# Altium footprint library Resistors-potenciometers.PcbLib: 79 footprints (part 2 of 5)
Each footprint in its own frame and in the unit in brackets; x right, y up, seen from the top. Pads: shape width x height; smd on the part's side, far side on the other; paste and mask are expansions set on the pad; w line width, h text height; cw(c..) or ccw(c..) is an arc to the next point about the centre after c.
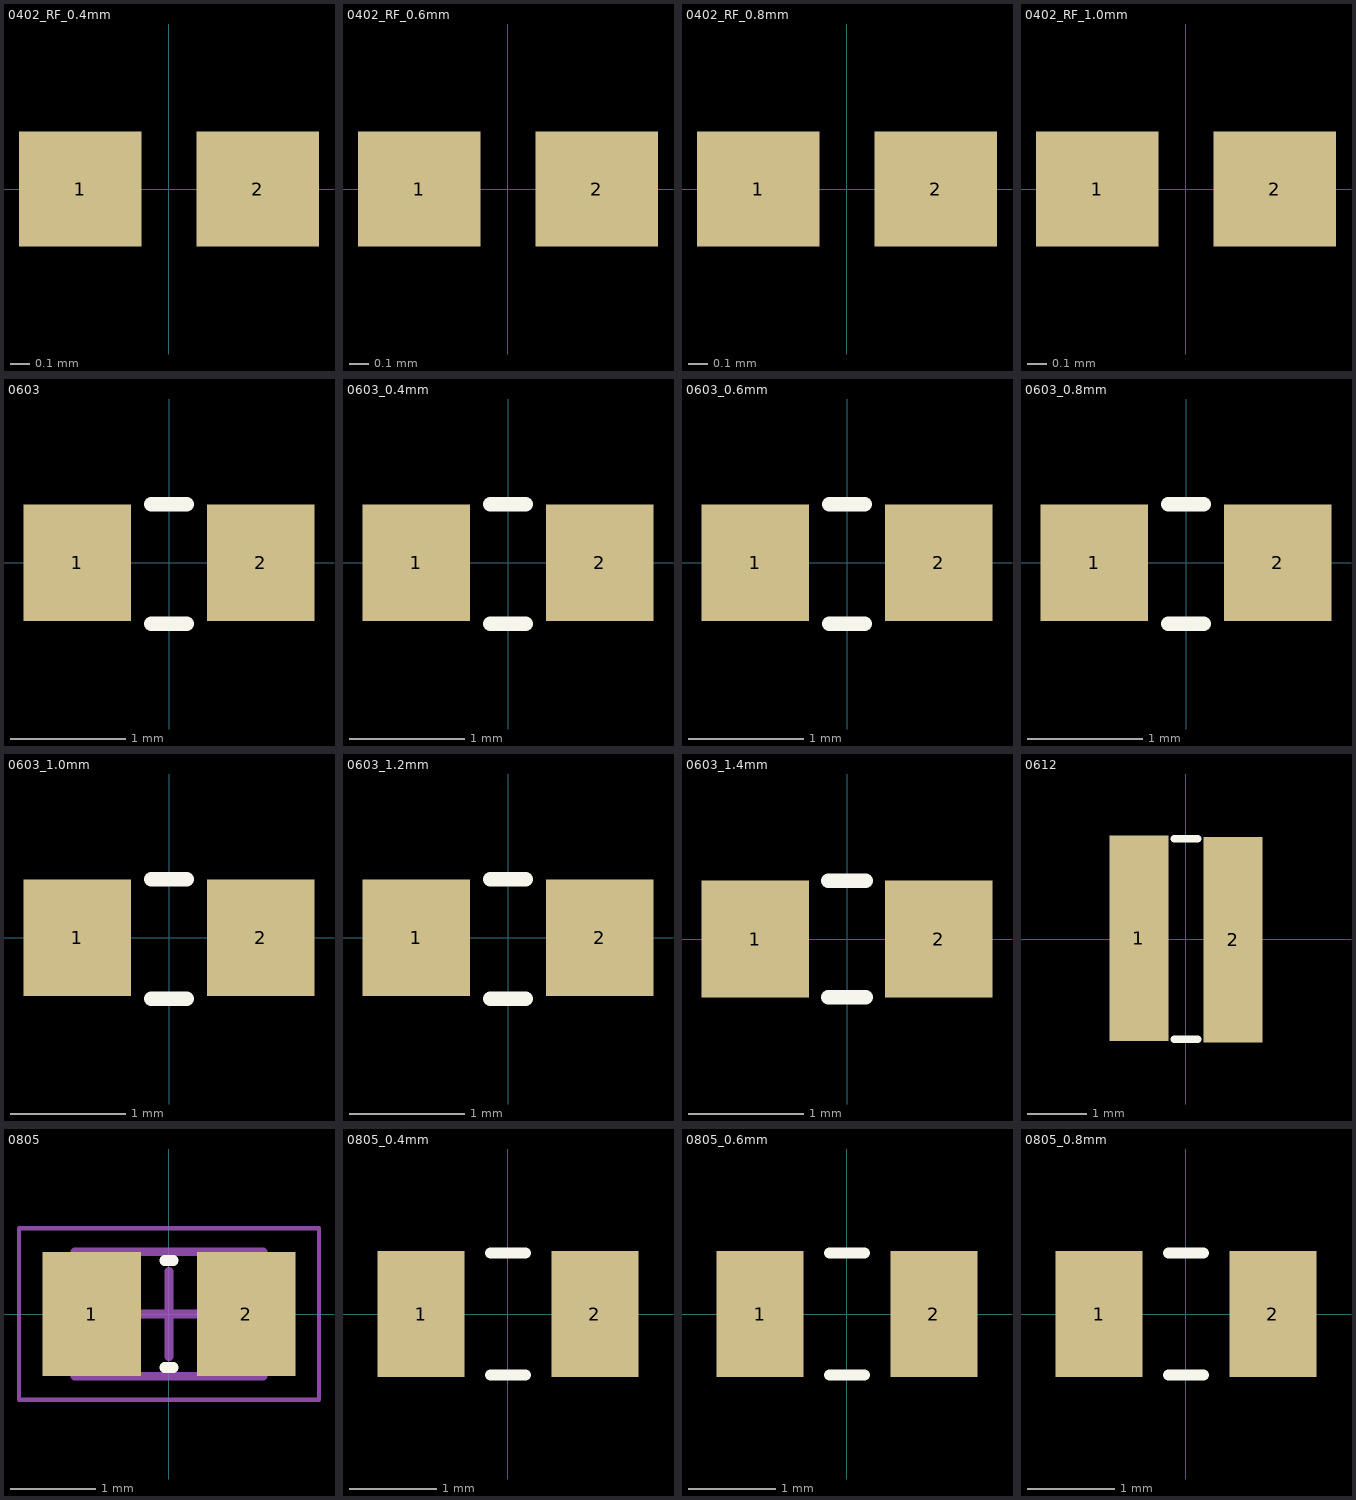
[diagram p1: the footprints below, top view; thin cyan lines are the x and y axes]

## 0402_RF_0.4mm [mm] "1005 Metric/20230306/J-A.Sepulveda"
pads (2):
  rect 0.62x0.584 smd: 1(-0.45,0) 2(0.45,0)
3D body: height 0.5, standoff 0.1, extent -0.5,-0.25 0.5,0.25

## 0402_RF_0.6mm [mm] "1005 Metric/20230306/J-A.Sepulveda"
pads (2):
  rect 0.62x0.584 smd: 1(-0.45,0) 2(0.45,0)
3D body: height 0.7, standoff 0.1, extent -0.5,-0.25 0.5,0.25

## 0402_RF_0.8mm [mm] "1005 Metric/20230306/J-A.Sepulveda"
pads (2):
  rect 0.62x0.584 smd: 1(-0.45,0) 2(0.45,0)
3D body: height 0.9, standoff 0.1, extent -0.5,-0.25 0.5,0.25

## 0402_RF_1.0mm [mm] "1005 Metric/20230306/J-A.Sepulveda"
pads (2):
  rect 0.62x0.584 smd: 1(-0.45,0) 2(0.45,0)
3D body: height 1.1, standoff 0.1, extent -0.5,-0.25 0.5,0.25

## 0603 [mil] "1608 Metric / 20190222 / N-A.Potosi"
pads (2):
  rect 37x40 smd: 1(-31.5,0) 2(31.5,0)
Top Overlay:
  lines w5: -6,-21 6,-21 ; -6,20 6,20
3D body "C0603.step": height 11.89, standoff 0, extent -31.5,-15.75 31.5,15.75

## 0603_0.4mm [mil] "1608 Metric/20230303/J-A.Sepulveda"
pads (2):
  rect 37x40 smd: 1(-31.5,0) 2(31.5,0)
Top Overlay:
  lines w5: -6,-21 6,-21 ; -6,20 6,20
3D body: height 19.68, standoff 3.94, extent -35.5,-19.49 35.51,19.49

## 0603_0.6mm [mil] "1608 Metric/20230303/J-A.Sepulveda"
pads (2):
  rect 37x40 smd: 1(-31.5,0) 2(31.5,0)
Top Overlay:
  lines w5: -6,-21 6,-21 ; -6,20 6,20
3D body: height 27.56, standoff 3.94, extent -35.5,-19.49 35.51,19.49

## 0603_0.8mm [mil] "1608 Metric/20230303/J-A.Sepulveda"
pads (2):
  rect 37x40 smd: 1(-31.5,0) 2(31.5,0)
Top Overlay:
  lines w5: -6,-21 6,-21 ; -6,20 6,20
3D body: height 35.43, standoff 3.94, extent -35.5,-19.49 35.51,19.49

## 0603_1.0mm [mil] "1608 Metric/20230303/J-A.Sepulveda"
pads (2):
  rect 37x40 smd: 1(-31.5,0) 2(31.5,0)
Top Overlay:
  lines w5: -6,-21 6,-21 ; -6,20 6,20
3D body: height 43.31, standoff 3.94, extent -35.5,-19.49 35.51,19.49

## 0603_1.2mm [mil] "1608 Metric/20230303/J-A.Sepulveda"
pads (2):
  rect 37x40 smd: 1(-31.5,0) 2(31.5,0)
Top Overlay:
  lines w5: -6,-21 6,-21 ; -6,20 6,20
3D body: height 51.18, standoff 3.94, extent -35.5,-19.49 35.51,19.49

## 0603_1.4mm [mil] "1608 Metric/20230206/J-A.Sepulveda"
pads (2):
  rect 37x40 smd: 1(-31.5,0) 2(31.5,0)
Top Overlay:
  lines w5: -6.5,-20 6.5,-20 ; -6.5,20 6.5,20
3D body: height 59.06, standoff 3.94, extent -31.5,-15.75 31.5,15.75

## 0612 [mm] "3216Metric / 20101029/ V-A.Patino"
pads (2):
  rect 1x3.5 smd: 1(-0.8,0.013) 2(0.8,-0.013)
Top Overlay:
  lines w0.127: -0.203,-1.702 0.203,-1.702 ; -0.203,1.702 0.203,1.702
3D body "RCL0612_VIS.step": height 0.65, standoff 0, extent -0.9,-1.7 0.9,1.7

## 0805 [mm] "2012 metric/ 20190327 / V-A.Patino"
pads (2):
  rect 1.15x1.45 smd: 1(-0.9,0) 2(0.9,0)
Top Overlay:
  lines w0.127: -0.05,-0.625 0.05,-0.625 ; -0.05,0.625 0.05,0.625
Mechanical 1:
  lines w0.1: -1.1,-0.725 1.1,-0.725 1.1,0.725 -1.1,0.725 -1.1,-0.725
Mechanical 15:
  lines w0.05: -1.75,-1 1.75,-1 1.75,1 -1.75,1 -1.75,-1
  lines w0.1: -0.5,0 0.5,0 ; 0,-0.5 0,0.5
3D body: height 1.3, standoff 0, extent -1.1,-0.725 -0.6,0.725
3D body: height 1.3, standoff 0, extent 0.6,-0.725 1.1,0.725
3D body: height 1.3, standoff 0, extent -0.6,-0.725 0.6,0.725

## 0805_0.4mm [mm] "2012 metric/20230306/ J-A.Sepulveda"
pads (2):
  rect 1x1.45 smd: 1(-1,0) 2(1,0)
Top Overlay:
  lines w0.127: -0.2,-0.7 0.2,-0.7 ; -0.2,0.7 0.2,0.7
3D body: height 0.5, standoff 0.1, extent -1,-0.65 -0.6,0.65
3D body: height 0.5, standoff 0.1, extent -0.6,-0.65 0.6,0.65
3D body: height 0.5, standoff 0.1, extent 0.6,-0.65 1,0.65

## 0805_0.6mm [mm] "2012 metric/20230306/ J-A.Sepulveda"
pads (2):
  rect 1x1.45 smd: 1(-1,0) 2(1,0)
Top Overlay:
  lines w0.127: -0.2,-0.7 0.2,-0.7 ; -0.2,0.7 0.2,0.7
3D body: height 0.7, standoff 0.1, extent -0.6,-0.65 0.6,0.65
3D body: height 0.7, standoff 0.1, extent 0.6,-0.65 1,0.65
3D body: height 0.7, standoff 0.1, extent -1,-0.65 -0.6,0.65

## 0805_0.8mm [mm] "2012 metric/20230306/ J-A.Sepulveda"
pads (2):
  rect 1x1.45 smd: 1(-1,0) 2(1,0)
Top Overlay:
  lines w0.127: -0.2,-0.7 0.2,-0.7 ; -0.2,0.7 0.2,0.7
3D body: height 0.9, standoff 0.1, extent -0.6,-0.65 0.6,0.65
3D body: height 0.9, standoff 0.1, extent 0.6,-0.65 1,0.65
3D body: height 0.9, standoff 0.1, extent -1,-0.65 -0.6,0.65